# Altium schematic symbol library SE868.SchLib: 1 symbol
Pins are listed as number, name and electrical type; pins without a type are passive.

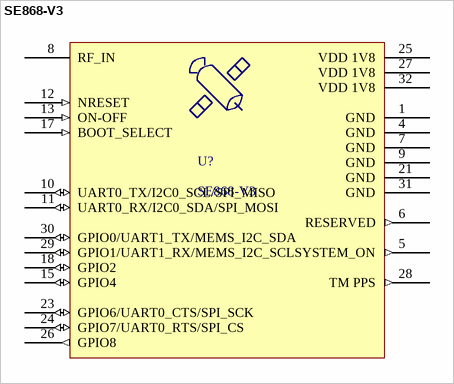
[diagram p0: symbol SE868-V3]

## SE868-V3
designator U?
pins: 1 GND (power), 4 GND (power), 5 SYSTEM_ON (out), 6 RESERVED (out), 7 GND (power), 8 RF_IN, 9 GND (power), 10 UART0_TX/I2C0_SCL/SPI_MISO (io), 11 UART0_RX/I2C0_SDA/SPI_MOSI (io), 12 NRESET (in), 13 ON-OFF (in), 15 GPIO4 (io), 17 BOOT_SELECT (in), 18 GPIO2 (io), 21 GND (power), 23 GPIO6/UART0_CTS/SPI_SCK (io), 24 GPIO7/UART0_RTS/SPI_CS (io), 25 VDD 1V8 (power), 26 GPIO8 (out), 27 VDD 1V8 (power), 28 TM PPS (out), 29 GPIO1/UART1_RX/MEMS_I2C_SCL (io), 30 GPIO0/UART1_TX/MEMS_I2C_SDA (io), 31 GND (power), 32 VDD 1V8 (power)